# Altium integrated library Misc.IntLib: 1 symbol
Pins are listed as number, name and electrical type; pins without a type are passive.

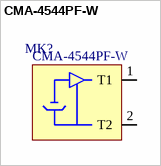
[diagram p0: symbol CMA-4544PF-W]

## CMA-4544PF-W
designator MK?  MPN: CMA-4544PF-W  (hidden comment: *)
MIC COND ANALOG OMNI -44DB; MFT: CUI Inc.; VALUE: CMA-4544PF-W; TYPE: TH; RATING: *; LOAD: *
footprint CMA-4544PF-W
pins: 1 T1, 2 T2